# EAGLE library part 005H6X2 (library ICSP)
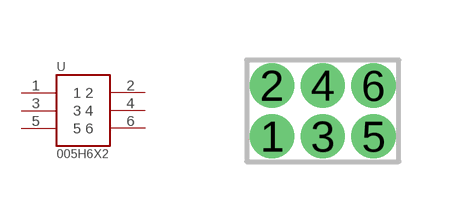
[diagram p0: symbol with the pads of 005HEAD6X2; footprint 005HEAD6X2]

Designator prefix -

## 005H6X2  [005HEAD6X2]
1  1
2  2
3  3
4  4
5  5
6  6

## Footprint 005HEAD6X2 (pad centres in mm)
drill 0.6 pad 0.813: 1 -1.27,-0.635; 2 -1.27,0.635; 3 0,-0.635; 4 0,0.635; 5 1.27,-0.635; 6 1.27,0.635